# Altium integrated library 10uF_capa_rad2ECA2AM100B.IntLib: 1 symbol
Pins are listed as number, name and electrical type; pins without a type are passive.

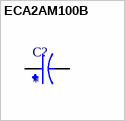
[diagram p0: symbol ECA2AM100B]

## ECA2AM100B
designator C?
10ÂµF 100V Aluminum Electrolytic Capacitors Radial, Can 2000 Hrs @ 85Â°C; MF: Panasonic; MP: ECA2AM100B; Value: *; Package: RADIAL-2 Panasonic; Check_prices: https://www.snapeda.com/parts/ECA2AM100B/Panasonic/view-part/?ref=eda; SnapEDA_Link: https://www.snapeda.com/parts/ECA2AM100B/Panasonic/view-part/?ref=snap; Digi-Key_Part_Number: P19556TB-ND
footprint CAPPRD500W50D500H1100
pins: N, P